# Altium integrated library WCAP-PTHR_rev15a.intlib: 23 symbols
Pins are listed as number, name and electrical type; pins without a type are passive.

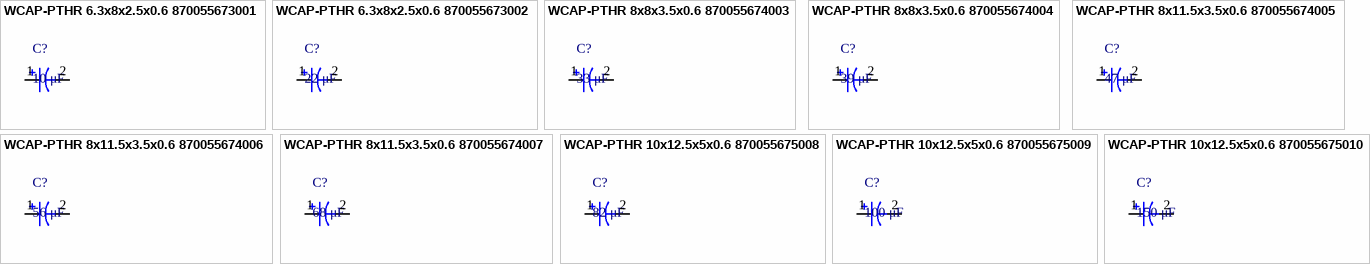
[diagram p0: symbols WCAP-PTHR 6.3x8x2.5x0.6 870055673001 to WCAP-PTHR 10x12.5x5x0.6 870055675010]

## WCAP-PTHR 6.3x8x2.5x0.6 870055673001
designator C?, comment 10 μF
WCAP-PTHR Aluminum Polymer Capacitors , 10 μF; + / - 20%; 35 V , 6,3 x 8; Manufacturer: Wurth Elektronik; partNo: 870055673001; E-mail: libraries@we-online.com; Characteristics: Aluminum Polymer Capacitors;Recommended soldering: Wave;Operating temperature: –55 °C to +105 °C;High reliability series;Low ESR at high frequency range;High permissible ripple current;Long life: 2000 h @ +105 °C; ComponentLink1Description: Manufacturer; ComponentLink1URL: http://www.we-online.com; ComponentLink2Description: Datasheet; ComponentLink2URL: http://katalog.we-online.de/pbs/datasheet/870055673001.pdf; Created by: Karrer Zheng; Created Date: 5/13/2015; Capacitance: 10 μF; Application: Low voltage port filtering, appplid to high-end switching power supply, PC(desktop,laptop ),industrial computer, VGA card, server power, charger, TV, digital set-top box,DC-DC power module, game machine etc which consume large current with high speed circuit.
footprint WCAP-PTHR 6.3x8x2.5x0.6
pins: 1, 2

## WCAP-PTHR 6.3x8x2.5x0.6 870055673002
designator C?, comment 22 μF
WCAP-PTHR Aluminum Polymer Capacitors , 22 μF; + / - 20%; 35 V , 6,3 x 8; Manufacturer: Wurth Elektronik; partNo: 870055673002; E-mail: libraries@we-online.com; Characteristics: Aluminum Polymer Capacitors;Recommended soldering: Wave;Operating temperature: –55 °C to +105 °C;High reliability series;Low ESR at high frequency range;High permissible ripple current;Long life: 2000 h @ +105 °C; ComponentLink1Description: Manufacturer; ComponentLink1URL: http://www.we-online.com; ComponentLink2Description: Datasheet; ComponentLink2URL: http://katalog.we-online.de/pbs/datasheet/870055673002.pdf; Created by: Karrer Zheng; Created Date: 5/13/2015; Capacitance: 22 μF; Application: Low voltage port filtering, appplid to high-end switching power supply, PC(desktop,laptop ),industrial computer, VGA card, server power, charger, TV, digital set-top box,DC-DC power module, game machine etc which consume large current with high speed circuit.
footprint WCAP-PTHR 6.3x8x2.5x0.6
pins: 1, 2

## WCAP-PTHR 8x8x3.5x0.6 870055674003
designator C?, comment 33 μF
WCAP-PTHR Aluminum Polymer Capacitors , 33 μF; + / - 20%; 35 V , 8 x 8; Manufacturer: Wurth Elektronik; partNo: 870055674003; E-mail: libraries@we-online.com; Characteristics: Aluminum Polymer Capacitors;Recommended soldering: Wave;Operating temperature: –55 °C to +105 °C;High reliability series;Low ESR at high frequency range;High permissible ripple current;Long life: 2000 h @ +105 °C; ComponentLink1Description: Manufacturer; ComponentLink1URL: http://www.we-online.com; ComponentLink2Description: Datasheet; ComponentLink2URL: http://katalog.we-online.de/pbs/datasheet/870055674003.pdf; Created by: Karrer Zheng; Created Date: 5/13/2015; Capacitance: 33 μF; Application: Low voltage port filtering, appplid to high-end switching power supply, PC(desktop,laptop ),industrial computer, VGA card, server power, charger, TV, digital set-top box,DC-DC power module, game machine etc which consume large current with high speed circuit.
footprint WCAP-PTHR 8x8x3.5x0.6
pins: 1, 2

## WCAP-PTHR 8x8x3.5x0.6 870055674004
designator C?, comment 39 μF
WCAP-PTHR Aluminum Polymer Capacitors , 39 μF; + / - 20%; 35 V , 8 x 8; Manufacturer: Wurth Elektronik; partNo: 870055674004; E-mail: libraries@we-online.com; Characteristics: Aluminum Polymer Capacitors;Recommended soldering: Wave;Operating temperature: –55 °C to +105 °C;High reliability series;Low ESR at high frequency range;High permissible ripple current;Long life: 2000 h @ +105 °C; ComponentLink1Description: Manufacturer; ComponentLink1URL: http://www.we-online.com; ComponentLink2Description: Datasheet; ComponentLink2URL: http://katalog.we-online.de/pbs/datasheet/870055674004.pdf; Created by: Karrer Zheng; Created Date: 5/13/2015; Capacitance: 39 μF; Application: Low voltage port filtering, appplid to high-end switching power supply, PC(desktop,laptop ),industrial computer, VGA card, server power, charger, TV, digital set-top box,DC-DC power module, game machine etc which consume large current with high speed circuit.
footprint WCAP-PTHR 8x8x3.5x0.6
pins: 1, 2

## WCAP-PTHR 8x11.5x3.5x0.6 870055674005
designator C?, comment 47 μF
WCAP-PTHR Aluminum Polymer Capacitors , 47 μF; + / - 20%; 35 V , 8 x 11,5; Manufacturer: Wurth Elektronik; partNo: 870055674005; E-mail: libraries@we-online.com; Characteristics: Aluminum Polymer Capacitors;Recommended soldering: Wave;Operating temperature: –55 °C to +105 °C;High reliability series;Low ESR at high frequency range;High permissible ripple current;Long life: 2000 h @ +105 °C; ComponentLink1Description: Manufacturer; ComponentLink1URL: http://www.we-online.com; ComponentLink2Description: Datasheet; ComponentLink2URL: http://katalog.we-online.de/pbs/datasheet/870055674005.pdf; Created by: Karrer Zheng; Created Date: 5/13/2015; Capacitance: 47 μF; Application: Low voltage port filtering, appplid to high-end switching power supply, PC(desktop,laptop ),industrial computer, VGA card, server power, charger, TV, digital set-top box,DC-DC power module, game machine etc which consume large current with high speed circuit.
footprint WCAP-PTHR 8x11.5x3.5x0.6
pins: 1, 2

## WCAP-PTHR 8x11.5x3.5x0.6 870055674006
designator C?, comment 56 μF
WCAP-PTHR Aluminum Polymer Capacitors , 56 μF; + / - 20%; 35 V , 8 x 11,5; Manufacturer: Wurth Elektronik; partNo: 870055674006; E-mail: libraries@we-online.com; Characteristics: Aluminum Polymer Capacitors;Recommended soldering: Wave;Operating temperature: –55 °C to +105 °C;High reliability series;Low ESR at high frequency range;High permissible ripple current;Long life: 2000 h @ +105 °C; ComponentLink1Description: Manufacturer; ComponentLink1URL: http://www.we-online.com; ComponentLink2Description: Datasheet; ComponentLink2URL: http://katalog.we-online.de/pbs/datasheet/870055674006.pdf; Created by: Karrer Zheng; Created Date: 5/13/2015; Capacitance: 56 μF; Application: Low voltage port filtering, appplid to high-end switching power supply, PC(desktop,laptop ),industrial computer, VGA card, server power, charger, TV, digital set-top box,DC-DC power module, game machine etc which consume large current with high speed circuit.
footprint WCAP-PTHR 8x11.5x3.5x0.6
pins: 1, 2

## WCAP-PTHR 8x11.5x3.5x0.6 870055674007
designator C?, comment 68 μF
WCAP-PTHR Aluminum Polymer Capacitors , 68 μF; + / - 20%; 35 V , 8 x 11,5; Manufacturer: Wurth Elektronik; partNo: 870055674007; E-mail: libraries@we-online.com; Characteristics: Aluminum Polymer Capacitors;Recommended soldering: Wave;Operating temperature: –55 °C to +105 °C;High reliability series;Low ESR at high frequency range;High permissible ripple current;Long life: 2000 h @ +105 °C; ComponentLink1Description: Manufacturer; ComponentLink1URL: http://www.we-online.com; ComponentLink2Description: Datasheet; ComponentLink2URL: http://katalog.we-online.de/pbs/datasheet/870055674007.pdf; Created by: Karrer Zheng; Created Date: 5/13/2015; Capacitance: 68 μF; Application: Low voltage port filtering, appplid to high-end switching power supply, PC(desktop,laptop ),industrial computer, VGA card, server power, charger, TV, digital set-top box,DC-DC power module, game machine etc which consume large current with high speed circuit.
footprint WCAP-PTHR 8x11.5x3.5x0.6
pins: 1, 2

## WCAP-PTHR 10x12.5x5x0.6 870055675008
designator C?, comment 82 μF
WCAP-PTHR Aluminum Polymer Capacitors , 82 μF; + / - 20%; 35 V , 10 x 12,5; Manufacturer: Wurth Elektronik; partNo: 870055675008; E-mail: libraries@we-online.com; Characteristics: Aluminum Polymer Capacitors;Recommended soldering: Wave;Operating temperature: –55 °C to +105 °C;High reliability series;Low ESR at high frequency range;High permissible ripple current;Long life: 2000 h @ +105 °C; ComponentLink1Description: Manufacturer; ComponentLink1URL: http://www.we-online.com; ComponentLink2Description: Datasheet; ComponentLink2URL: http://katalog.we-online.de/pbs/datasheet/870055675008.pdf; Created by: Karrer Zheng; Created Date: 5/13/2015; Capacitance: 82 μF; Application: Low voltage port filtering, appplid to high-end switching power supply, PC(desktop,laptop ),industrial computer, VGA card, server power, charger, TV, digital set-top box,DC-DC power module, game machine etc which consume large current with high speed circuit.
footprint WCAP-PTHR 10x12.5x5x0.6
pins: 1, 2

## WCAP-PTHR 10x12.5x5x0.6 870055675009
designator C?, comment 100 μF
WCAP-PTHR Aluminum Polymer Capacitors , 100 μF; + / - 20%; 35 V , 10 x 12,5; Manufacturer: Wurth Elektronik; partNo: 870055675009; E-mail: libraries@we-online.com; Characteristics: Aluminum Polymer Capacitors;Recommended soldering: Wave;Operating temperature: –55 °C to +105 °C;High reliability series;Low ESR at high frequency range;High permissible ripple current;Long life: 2000 h @ +105 °C; ComponentLink1Description: Manufacturer; ComponentLink1URL: http://www.we-online.com; ComponentLink2Description: Datasheet; ComponentLink2URL: http://katalog.we-online.de/pbs/datasheet/870055675009.pdf; Created by: Karrer Zheng; Created Date: 5/13/2015; Capacitance: 100 μF; Application: Low voltage port filtering, appplid to high-end switching power supply, PC(desktop,laptop ),industrial computer, VGA card, server power, charger, TV, digital set-top box,DC-DC power module, game machine etc which consume large current with high speed circuit.
footprint WCAP-PTHR 10x12.5x5x0.6
pins: 1, 2

## WCAP-PTHR 10x12.5x5x0.6 870055675010
designator C?, comment 150 μF
WCAP-PTHR Aluminum Polymer Capacitors , 150 μF; + / - 20%; 35 V , 10 x 12,5; Manufacturer: Wurth Elektronik; partNo: 870055675010; E-mail: libraries@we-online.com; Characteristics: Aluminum Polymer Capacitors;Recommended soldering: Wave;Operating temperature: –55 °C to +105 °C;High reliability series;Low ESR at high frequency range;High permissible ripple current;Long life: 2000 h @ +105 °C; ComponentLink1Description: Manufacturer; ComponentLink1URL: http://www.we-online.com; ComponentLink2Description: Datasheet; ComponentLink2URL: http://katalog.we-online.de/pbs/datasheet/870055675010.pdf; Created by: Karrer Zheng; Created Date: 5/13/2015; Capacitance: 150 μF; Application: Low voltage port filtering, appplid to high-end switching power supply, PC(desktop,laptop ),industrial computer, VGA card, server power, charger, TV, digital set-top box,DC-DC power module, game machine etc which consume large current with high speed circuit.
footprint WCAP-PTHR 10x12.5x5x0.6
pins: 1, 2


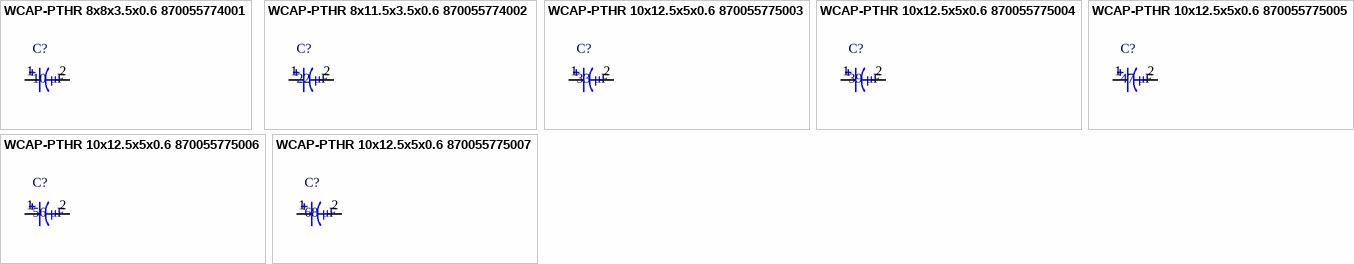
[diagram p1: symbols WCAP-PTHR 8x8x3.5x0.6 870055774001 to WCAP-PTHR 10x12.5x5x0.6 870055775007]

## WCAP-PTHR 8x8x3.5x0.6 870055774001
designator C?, comment 10 μF
WCAP-PTHR Aluminum Polymer Capacitors , 10 μF; + / - 20%; 50 V , 8 x 8; Manufacturer: Wurth Elektronik; partNo: 870055774001; E-mail: libraries@we-online.com; Characteristics: Aluminum Polymer Capacitors;Recommended soldering: Wave;Operating temperature: –55 °C to +105 °C;High reliability series;Low ESR at high frequency range;High permissible ripple current;Long life: 2000 h @ +105 °C; ComponentLink1Description: Manufacturer; ComponentLink1URL: http://www.we-online.com; ComponentLink2Description: Datasheet; ComponentLink2URL: http://katalog.we-online.de/pbs/datasheet/870055774001.pdf; Created by: Karrer Zheng; Created Date: 5/13/2015; Capacitance: 10 μF; Application: Low voltage port filtering, appplid to high-end switching power supply, PC(desktop,laptop ),industrial computer, VGA card, server power, charger, TV, digital set-top box,DC-DC power module, game machine etc which consume large current with high speed circuit.
footprint WCAP-PTHR 8x8x3.5x0.6
pins: 1, 2

## WCAP-PTHR 8x11.5x3.5x0.6 870055774002
designator C?, comment 22 μF
WCAP-PTHR Aluminum Polymer Capacitors , 22 μF; + / - 20%; 50 V , 8 x 11,5; Manufacturer: Wurth Elektronik; partNo: 870055774002; E-mail: libraries@we-online.com; Characteristics: Aluminum Polymer Capacitors;Recommended soldering: Wave;Operating temperature: –55 °C to +105 °C;High reliability series;Low ESR at high frequency range;High permissible ripple current;Long life: 2000 h @ +105 °C; ComponentLink1Description: Manufacturer; ComponentLink1URL: http://www.we-online.com; ComponentLink2Description: Datasheet; ComponentLink2URL: http://katalog.we-online.de/pbs/datasheet/870055774002.pdf; Created by: Karrer Zheng; Created Date: 5/13/2015; Capacitance: 22 μF; Application: Low voltage port filtering, appplid to high-end switching power supply, PC(desktop,laptop ),industrial computer, VGA card, server power, charger, TV, digital set-top box,DC-DC power module, game machine etc which consume large current with high speed circuit.
footprint WCAP-PTHR 8x11.5x3.5x0.6
pins: 1, 2

## WCAP-PTHR 10x12.5x5x0.6 870055775003
designator C?, comment 33 μF
WCAP-PTHR Aluminum Polymer Capacitors , 33 μF; + / - 20%; 50 V , 10 x 12,5; Manufacturer: Wurth Elektronik; partNo: 870055775003; E-mail: libraries@we-online.com; Characteristics: Aluminum Polymer Capacitors;Recommended soldering: Wave;Operating temperature: –55 °C to +105 °C;High reliability series;Low ESR at high frequency range;High permissible ripple current;Long life: 2000 h @ +105 °C; ComponentLink1Description: Manufacturer; ComponentLink1URL: http://www.we-online.com; ComponentLink2Description: Datasheet; ComponentLink2URL: http://katalog.we-online.de/pbs/datasheet/870055775003.pdf; Created by: Karrer Zheng; Created Date: 5/13/2015; Capacitance: 33 μF; Application: Low voltage port filtering, appplid to high-end switching power supply, PC(desktop,laptop ),industrial computer, VGA card, server power, charger, TV, digital set-top box,DC-DC power module, game machine etc which consume large current with high speed circuit.
footprint WCAP-PTHR 10x12.5x5x0.6
pins: 1, 2

## WCAP-PTHR 10x12.5x5x0.6 870055775004
designator C?, comment 39 μF
WCAP-PTHR Aluminum Polymer Capacitors , 39 μF; + / - 20%; 50 V , 10 x 12,5; Manufacturer: Wurth Elektronik; partNo: 870055775004; E-mail: libraries@we-online.com; Characteristics: Aluminum Polymer Capacitors;Recommended soldering: Wave;Operating temperature: –55 °C to +105 °C;High reliability series;Low ESR at high frequency range;High permissible ripple current;Long life: 2000 h @ +105 °C; ComponentLink1Description: Manufacturer; ComponentLink1URL: http://www.we-online.com; ComponentLink2Description: Datasheet; ComponentLink2URL: http://katalog.we-online.de/pbs/datasheet/870055775004.pdf; Created by: Karrer Zheng; Created Date: 5/13/2015; Capacitance: 39 μF; Application: Low voltage port filtering, appplid to high-end switching power supply, PC(desktop,laptop ),industrial computer, VGA card, server power, charger, TV, digital set-top box,DC-DC power module, game machine etc which consume large current with high speed circuit.
footprint WCAP-PTHR 10x12.5x5x0.6
pins: 1, 2

## WCAP-PTHR 10x12.5x5x0.6 870055775005
designator C?, comment 47 μF
WCAP-PTHR Aluminum Polymer Capacitors , 47 μF; + / - 20%; 50 V , 10 x 12,5; Manufacturer: Wurth Elektronik; partNo: 870055775005; E-mail: libraries@we-online.com; Characteristics: Aluminum Polymer Capacitors;Recommended soldering: Wave;Operating temperature: –55 °C to +105 °C;High reliability series;Low ESR at high frequency range;High permissible ripple current;Long life: 2000 h @ +105 °C; ComponentLink1Description: Manufacturer; ComponentLink1URL: http://www.we-online.com; ComponentLink2Description: Datasheet; ComponentLink2URL: http://katalog.we-online.de/pbs/datasheet/870055775005.pdf; Created by: Karrer Zheng; Created Date: 5/13/2015; Capacitance: 47 μF; Application: Low voltage port filtering, appplid to high-end switching power supply, PC(desktop,laptop ),industrial computer, VGA card, server power, charger, TV, digital set-top box,DC-DC power module, game machine etc which consume large current with high speed circuit.
footprint WCAP-PTHR 10x12.5x5x0.6
pins: 1, 2

## WCAP-PTHR 10x12.5x5x0.6 870055775006
designator C?, comment 56 μF
WCAP-PTHR Aluminum Polymer Capacitors , 56 μF; + / - 20%; 50 V , 10 x 12,5; Manufacturer: Wurth Elektronik; partNo: 870055775006; E-mail: libraries@we-online.com; Characteristics: Aluminum Polymer Capacitors;Recommended soldering: Wave;Operating temperature: –55 °C to +105 °C;High reliability series;Low ESR at high frequency range;High permissible ripple current;Long life: 2000 h @ +105 °C; ComponentLink1Description: Manufacturer; ComponentLink1URL: http://www.we-online.com; ComponentLink2Description: Datasheet; ComponentLink2URL: http://katalog.we-online.de/pbs/datasheet/870055775006.pdf; Created by: Karrer Zheng; Created Date: 5/13/2015; Capacitance: 56 μF; Application: Low voltage port filtering, appplid to high-end switching power supply, PC(desktop,laptop ),industrial computer, VGA card, server power, charger, TV, digital set-top box,DC-DC power module, game machine etc which consume large current with high speed circuit.
footprint WCAP-PTHR 10x12.5x5x0.6
pins: 1, 2

## WCAP-PTHR 10x12.5x5x0.6 870055775007
designator C?, comment 68 μF
WCAP-PTHR Aluminum Polymer Capacitors , 68 μF; + / - 20%; 50 V , 10 x 12,5; Manufacturer: Wurth Elektronik; partNo: 870055775007; E-mail: libraries@we-online.com; Characteristics: Aluminum Polymer Capacitors;Recommended soldering: Wave;Operating temperature: –55 °C to +105 °C;High reliability series;Low ESR at high frequency range;High permissible ripple current;Long life: 2000 h @ +105 °C; ComponentLink1Description: Manufacturer; ComponentLink1URL: http://www.we-online.com; ComponentLink2Description: Datasheet; ComponentLink2URL: http://katalog.we-online.de/pbs/datasheet/870055775007.pdf; Created by: Karrer Zheng; Created Date: 5/13/2015; Capacitance: 68 μF; Application: Low voltage port filtering, appplid to high-end switching power supply, PC(desktop,laptop ),industrial computer, VGA card, server power, charger, TV, digital set-top box,DC-DC power module, game machine etc which consume large current with high speed circuit.
footprint WCAP-PTHR 10x12.5x5x0.6
pins: 1, 2


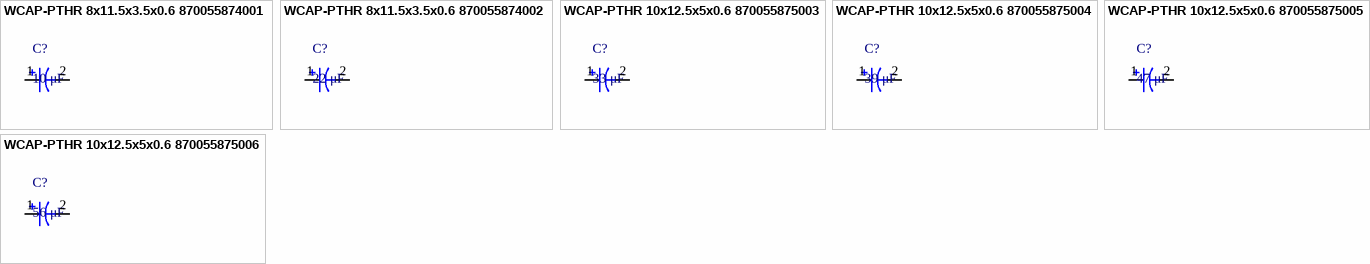
[diagram p2: symbols WCAP-PTHR 8x11.5x3.5x0.6 870055874001 to WCAP-PTHR 10x12.5x5x0.6 870055875006]

## WCAP-PTHR 8x11.5x3.5x0.6 870055874001
designator C?, comment 10 μF
WCAP-PTHR Aluminum Polymer Capacitors , 10 μF; + / - 20%; 63 V , 8 x 11,5; Manufacturer: Wurth Elektronik; partNo: 870055874001; E-mail: libraries@we-online.com; Characteristics: Aluminum Polymer Capacitors;Recommended soldering: Wave;Operating temperature: –55 °C to +105 °C;High reliability series;Low ESR at high frequency range;High permissible ripple current;Long life: 2000 h @ +105 °C; ComponentLink1Description: Manufacturer; ComponentLink1URL: http://www.we-online.com; ComponentLink2Description: Datasheet; ComponentLink2URL: http://katalog.we-online.de/pbs/datasheet/870055874001.pdf; Created by: Karrer Zheng; Created Date: 5/13/2015; Capacitance: 10 μF; Application: Low voltage port filtering, appplid to high-end switching power supply, PC(desktop,laptop ),industrial computer, VGA card, server power, charger, TV, digital set-top box,DC-DC power module, game machine etc which consume large current with high speed circuit.
footprint WCAP-PTHR 8x11.5x3.5x0.6
pins: 1, 2

## WCAP-PTHR 8x11.5x3.5x0.6 870055874002
designator C?, comment 22 μF
WCAP-PTHR Aluminum Polymer Capacitors , 22 μF; + / - 20%; 63 V , 8 x 11,5; Manufacturer: Wurth Elektronik; partNo: 870055874002; E-mail: libraries@we-online.com; Characteristics: Aluminum Polymer Capacitors;Recommended soldering: Wave;Operating temperature: –55 °C to +105 °C;High reliability series;Low ESR at high frequency range;High permissible ripple current;Long life: 2000 h @ +105 °C; ComponentLink1Description: Manufacturer; ComponentLink1URL: http://www.we-online.com; ComponentLink2Description: Datasheet; ComponentLink2URL: http://katalog.we-online.de/pbs/datasheet/870055874002.pdf; Created by: Karrer Zheng; Created Date: 5/13/2015; Capacitance: 22 μF; Application: Low voltage port filtering, appplid to high-end switching power supply, PC(desktop,laptop ),industrial computer, VGA card, server power, charger, TV, digital set-top box,DC-DC power module, game machine etc which consume large current with high speed circuit.
footprint WCAP-PTHR 8x11.5x3.5x0.6
pins: 1, 2

## WCAP-PTHR 10x12.5x5x0.6 870055875003
designator C?, comment 33 μF
WCAP-PTHR Aluminum Polymer Capacitors , 33 μF; + / - 20%; 63 V , 10 x 12,5; Manufacturer: Wurth Elektronik; partNo: 870055875003; E-mail: libraries@we-online.com; Characteristics: Aluminum Polymer Capacitors;Recommended soldering: Wave;Operating temperature: –55 °C to +105 °C;High reliability series;Low ESR at high frequency range;High permissible ripple current;Long life: 2000 h @ +105 °C; ComponentLink1Description: Manufacturer; ComponentLink1URL: http://www.we-online.com; ComponentLink2Description: Datasheet; ComponentLink2URL: http://katalog.we-online.de/pbs/datasheet/870055875003.pdf; Created by: Karrer Zheng; Created Date: 5/13/2015; Capacitance: 33 μF; Application: Low voltage port filtering, appplid to high-end switching power supply, PC(desktop,laptop ),industrial computer, VGA card, server power, charger, TV, digital set-top box,DC-DC power module, game machine etc which consume large current with high speed circuit.
footprint WCAP-PTHR 10x12.5x5x0.6
pins: 1, 2

## WCAP-PTHR 10x12.5x5x0.6 870055875004
designator C?, comment 39 μF
WCAP-PTHR Aluminum Polymer Capacitors , 39 μF; + / - 20%; 63 V , 10 x 12,5; Manufacturer: Wurth Elektronik; partNo: 870055875004; E-mail: libraries@we-online.com; Characteristics: Aluminum Polymer Capacitors;Recommended soldering: Wave;Operating temperature: –55 °C to +105 °C;High reliability series;Low ESR at high frequency range;High permissible ripple current;Long life: 2000 h @ +105 °C; ComponentLink1Description: Manufacturer; ComponentLink1URL: http://www.we-online.com; ComponentLink2Description: Datasheet; ComponentLink2URL: http://katalog.we-online.de/pbs/datasheet/870055875004.pdf; Created by: Karrer Zheng; Created Date: 5/13/2015; Capacitance: 39 μF; Application: Low voltage port filtering, appplid to high-end switching power supply, PC(desktop,laptop ),industrial computer, VGA card, server power, charger, TV, digital set-top box,DC-DC power module, game machine etc which consume large current with high speed circuit.
footprint WCAP-PTHR 10x12.5x5x0.6
pins: 1, 2

## WCAP-PTHR 10x12.5x5x0.6 870055875005
designator C?, comment 47 μF
WCAP-PTHR Aluminum Polymer Capacitors , 47 μF; + / - 20%; 63 V , 10 x 12,5; Manufacturer: Wurth Elektronik; partNo: 870055875005; E-mail: libraries@we-online.com; Characteristics: Aluminum Polymer Capacitors;Recommended soldering: Wave;Operating temperature: –55 °C to +105 °C;High reliability series;Low ESR at high frequency range;High permissible ripple current;Long life: 2000 h @ +105 °C; ComponentLink1Description: Manufacturer; ComponentLink1URL: http://www.we-online.com; ComponentLink2Description: Datasheet; ComponentLink2URL: http://katalog.we-online.de/pbs/datasheet/870055875005.pdf; Created by: Karrer Zheng; Created Date: 5/13/2015; Capacitance: 47 μF; Application: Low voltage port filtering, appplid to high-end switching power supply, PC(desktop,laptop ),industrial computer, VGA card, server power, charger, TV, digital set-top box,DC-DC power module, game machine etc which consume large current with high speed circuit.
footprint WCAP-PTHR 10x12.5x5x0.6
pins: 1, 2

## WCAP-PTHR 10x12.5x5x0.6 870055875006
designator C?, comment 56 μF
WCAP-PTHR Aluminum Polymer Capacitors , 56 μF; + / - 20%; 63 V , 10 x 12,5; Manufacturer: Wurth Elektronik; partNo: 870055875006; E-mail: libraries@we-online.com; Characteristics: Aluminum Polymer Capacitors;Recommended soldering: Wave;Operating temperature: –55 °C to +105 °C;High reliability series;Low ESR at high frequency range;High permissible ripple current;Long life: 2000 h @ +105 °C; ComponentLink1Description: Manufacturer; ComponentLink1URL: http://www.we-online.com; ComponentLink2Description: Datasheet; ComponentLink2URL: http://katalog.we-online.de/pbs/datasheet/870055875006.pdf; Created by: Karrer Zheng; Created Date: 5/13/2015; Capacitance: 56 μF; Application: Low voltage port filtering, appplid to high-end switching power supply, PC(desktop,laptop ),industrial computer, VGA card, server power, charger, TV, digital set-top box,DC-DC power module, game machine etc which consume large current with high speed circuit.
footprint WCAP-PTHR 10x12.5x5x0.6
pins: 1, 2